# Altium footprint library QFN12L(4x4)_N.PcbLib: 1 footprints
Each footprint in its own frame and in the unit in brackets; x right, y up, seen from the top. Pads: shape width x height; smd on the part's side, far side on the other; paste and mask are expansions set on the pad; w line width, h text height; cw(c..) or ccw(c..) is an arc to the next point about the centre after c.
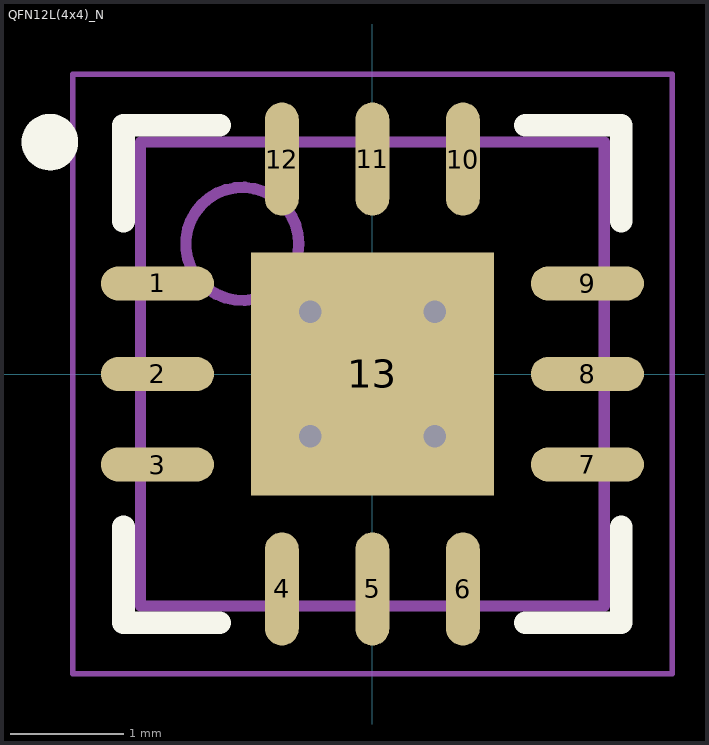
[diagram p0: the footprint, top view; thin cyan lines are the x and y axes]

## QFN12L(4x4)_N [mm] "QFN, 12-Leads, Body 4x4mm, Pitch 0.8mm, Thermal Pad 2.15x2.15mm, IPC Medium Density"
height 1
pads (13):
  oval 1x0.3 smd: 1(-1.9,0.8) 2(-1.9,0) 3(-1.9,-0.8) 7(1.9,-0.8) 8(1.9,0) 9(1.9,0.8)
  oval 0.3x1 smd: 4(-0.8,-1.9) 5(0,-1.9) 6(0.8,-1.9) 10(0.8,1.9) 11(0,1.9) 12(-0.8,1.9)
  rect 2.15x2.15 smd: 13(0,0)
via 0.55,-0.55 diameter 0.5 hole 0.2
via -0.55,-0.55 diameter 0.5 hole 0.2
via 0.55,0.55 diameter 0.5 hole 0.2
via -0.55,0.55 diameter 0.5 hole 0.2
Top Overlay:
  circle w0.25: c-2.85,2.05 r0.125
  lines w0.2: -2.2,-1.35 -2.2,-2.2 -1.35,-2.2 ; -2.2,1.35 -2.2,2.2 -1.35,2.2 ; 1.35,-2.2 2.2,-2.2 2.2,-1.35 ; 1.35,2.2 2.2,2.2 2.2,1.35
Mechanical 13:
  circle w0.1: c-1.15,1.15 r0.5
  lines w0.1: -2.05,-2.05 2.05,-2.05 2.05,2.05 -2.05,2.05 -2.05,-2.05
Mechanical 15:
  lines w0.05: -2.65,-2.65 2.65,-2.65 2.65,2.65 -2.65,2.65 -2.65,-2.65
  lines w0.1: -0.5,0 0.5,0 ; 0,-0.5 0,0.5
3D body: height 1, standoff 0, extent -2.05,-2.05 2.05,2.05